# Altium integrated library XMOS xCORE General Purpose.IntLib: 46 symbols (part 1 of 4)
Pins are listed as number, name and electrical type; pins without a type are passive.

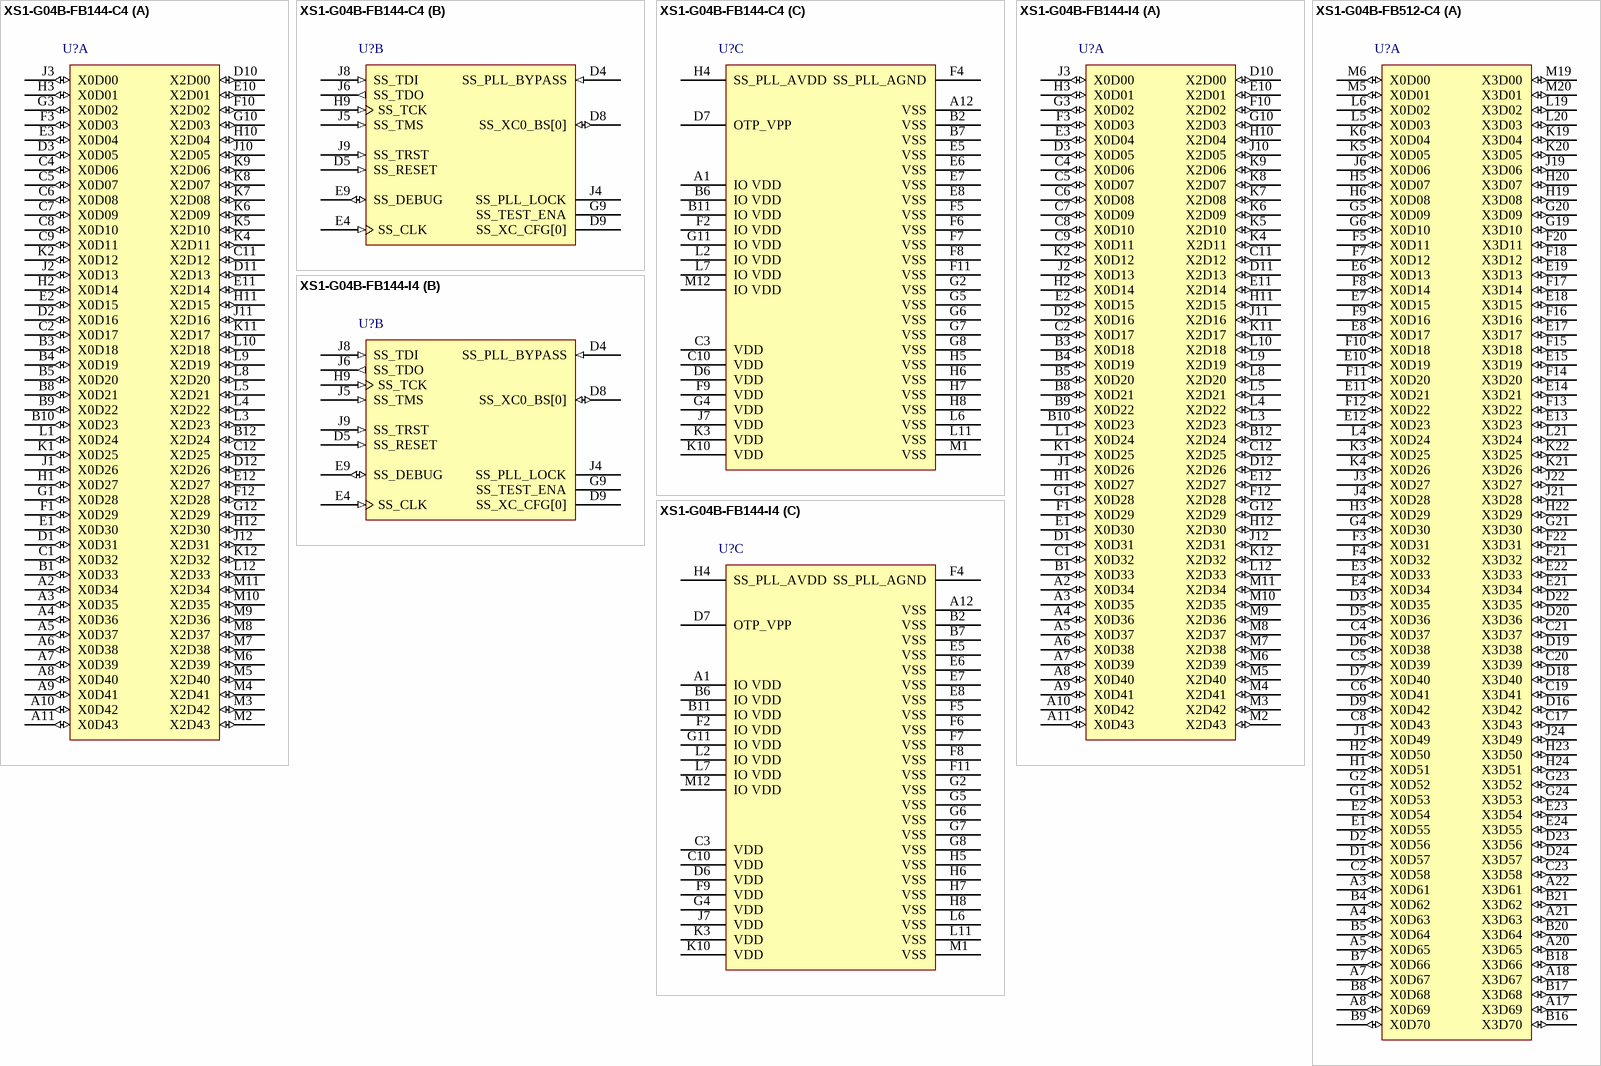
[diagram p0: symbols XS1-G04B-FB144-C4 to XS1-G04B-FB512-C4]

## XS1-G04B-FB144-C4
designator U?
32 Core XS1-G 32-bit Multicore Microcontroller, 88 I/O, 0 to 70 degC, 144-Pin FBGA, Pb-Free, Tray; PartNumber: XS1-G04B-FB144-C4; Cores/Tiles: 32/4; I/O: 88; RAM: 64 kB; Speed Grade: 400 MIPS; DatasheetVersion: Rev. X1087H; PackageReference: FBGA-144; PackageDescription: 144-Pin Fine Ball Grid Array, Body 11 x 11 mm, Pitch 0.8 mm; Supplier 1: Digi-Key; Supplier Part Number 1: 880-1008-ND; Packing: Tray; Temperature Range: 0 to 70 degC; Mounting Technology: Surface Mount; Code_JEDEC: MO-275; ComponentLink1Description: Manufacturer URL; ComponentLink1URL: http://www.xmos.com/; ComponentLink2Description: Datasheet; ComponentLink2URL: https://www.xmos.com/en/download/public/XS1-G04B-FB144-Datasheet%28X1087A%29.pdf; ComponentLink3Description: Package Specification; ComponentLink3URL: https://www.xmos.com/en/download/public/XS1-G04B-FB144-Datasheet%28X1087A%29.pdf
footprint XMOS-FBGA-144 (BGA, 144-Balls, Body 11x11mm, Pitch 0.8mm)
part A pins: A2 X0D34 (io), A3 X0D35 (io), A4 X0D36 (io), A5 X0D37 (io), A6 X0D38 (io), A7 X0D39 (io), A8 X0D40 (io), A9 X0D41 (io), A10 X0D42 (io), A11 X0D43 (io), B1 X0D33 (io), B3 X0D18 (io), B4 X0D19 (io), B5 X0D20 (io), B8 X0D21 (io), B9 X0D22 (io), B10 X0D23 (io), B12 X2D24 (io), C1 X0D32 (io), C2 X0D17 (io), C4 X0D06 (io), C5 X0D07 (io), C6 X0D08 (io), C7 X0D09 (io), C8 X0D10 (io), C9 X0D11 (io), C11 X2D12 (io), C12 X2D25 (io), D1 X0D31 (io), D2 X0D16 (io), D3 X0D05 (io), D10 X2D00 (io), D11 X2D13 (io), D12 X2D26 (io), E1 X0D30 (io), E2 X0D15 (io), E3 X0D04 (io), E10 X2D01 (io), E11 X2D14 (io), E12 X2D27 (io), F1 X0D29 (io), F3 X0D03 (io), F10 X2D02 (io), F12 X2D28 (io), G1 X0D28 (io), G3 X0D02 (io), G10 X2D03 (io), G12 X2D29 (io), H1 X0D27 (io), H2 X0D14 (io), H3 X0D01 (io), H10 X2D04 (io), H11 X2D15 (io), H12 X2D30 (io), J1 X0D26 (io), J2 X0D13 (io), J3 X0D00 (io), J10 X2D05 (io), J11 X2D16 (io), J12 X2D31 (io), K1 X0D25 (io), K2 X0D12 (io), K4 X2D11 (io), K5 X2D10 (io), K6 X2D09 (io), K7 X2D08 (io), K8 X2D07 (io), K9 X2D06 (io), K11 X2D17 (io), K12 X2D32 (io), L1 X0D24 (io), L3 X2D23 (io), L4 X2D22 (io), L5 X2D21 (io), L8 X2D20 (io), L9 X2D19 (io), L10 X2D18 (io), L12 X2D33 (io), M2 X2D43 (io), M3 X2D42 (io), M4 X2D41 (io), M5 X2D40 (io), M6 X2D39 (io), M7 X2D38 (io), M8 X2D37 (io), M9 X2D36 (io), M10 X2D35 (io), M11 X2D34 (io)
part B pins: D4 SS_PLL_BYPASS (in) "PLL bypass", D5 SS_RESET (in) "Global reset input", D8 SS_XC0_BS[0] (io) "Boot status (tile 0)", D9 SS_XC_CFG[0] "Reserved (tie to VSS)", E4 SS_CLK (in) "PLL reference clock", E9 SS_DEBUG (io) "Multi-chip debug", G9 SS_TEST_ENA "Reserved (tie to VSS)", H9 SS_TCK (in) "Test clock", J4 SS_PLL_LOCK "Reserved (do not connect)", J5 SS_TMS (in) "Test mode select", J6 SS_TDO (out) "Test data output", J8 SS_TDI (in) "Test data input", J9 SS_TRST (in) "Test reset input"
part C pins: A1 IO VDD (power) "Digital I/O power", A12 VSS (power) "Digital ground", B2 VSS (power) "Digital ground", B6 IO VDD (power) "Digital I/O power", B7 VSS (power) "Digital ground", B11 IO VDD (power) "Digital I/O power", C3 VDD (power) "Digital tile power", C10 VDD (power) "Digital tile power", D6 VDD (power) "Digital tile power", D7 OTP_VPP (power) "OTP programming voltage", E5 VSS (power) "Digital ground", E6 VSS (power) "Digital ground", E7 VSS (power) "Digital ground", E8 VSS (power) "Digital ground", F2 IO VDD (power) "Digital I/O power", F4 SS_PLL_AGND (power) "Analog ground for PLL", F5 VSS (power) "Digital ground", F6 VSS (power) "Digital ground", F7 VSS (power) "Digital ground", F8 VSS (power) "Digital ground", F9 VDD (power) "Digital tile power", F11 VSS (power) "Digital ground", G2 VSS (power) "Digital ground", G4 VDD (power) "Digital tile power", G5 VSS (power) "Digital ground", G6 VSS (power) "Digital ground", G7 VSS (power) "Digital ground", G8 VSS (power) "Digital ground", G11 IO VDD (power) "Digital I/O power", H4 SS_PLL_AVDD (power) "Analog PLL power", H5 VSS (power) "Digital ground", H6 VSS (power) "Digital ground", H7 VSS (power) "Digital ground", H8 VSS (power) "Digital ground", J7 VDD (power) "Digital tile power", K3 VDD (power) "Digital tile power", K10 VDD (power) "Digital tile power", L2 IO VDD (power) "Digital I/O power", L6 VSS (power) "Digital ground", L7 IO VDD (power) "Digital I/O power", L11 VSS (power) "Digital ground", M1 VSS (power) "Digital ground", M12 IO VDD (power) "Digital I/O power"

## XS1-G04B-FB144-I4
designator U?
32 Core XS1-G 32-bit Multicore Microcontroller, 88 I/O, -40 to 85 degC, 144-Pin FBGA, Pb-Free, Tray; PartNumber: XS1-G04B-FB144-I4; Cores/Tiles: 32/4; I/O: 88; RAM: 64 kB; Speed Grade: 400 MIPS; DatasheetVersion: Rev. X1087H; PackageReference: FBGA-144; PackageDescription: 144-Pin Fine Ball Grid Array, Body 11 x 11 mm, Pitch 0.8 mm; Supplier 1: Digi-Key; Supplier Part Number 1: 880-1009-ND; Packing: Tray; Temperature Range: -40 to 85 degC; Mounting Technology: Surface Mount; Code_JEDEC: MO-275; ComponentLink1Description: Manufacturer URL; ComponentLink1URL: http://www.xmos.com/; ComponentLink2Description: Datasheet; ComponentLink2URL: https://www.xmos.com/en/download/public/XS1-G04B-FB144-Datasheet%28X1087A%29.pdf; ComponentLink3Description: Package Specification; ComponentLink3URL: https://www.xmos.com/en/download/public/XS1-G04B-FB144-Datasheet%28X1087A%29.pdf
footprint XMOS-FBGA-144 (BGA, 144-Balls, Body 11x11mm, Pitch 0.8mm)
part A pins: A2 X0D34 (io), A3 X0D35 (io), A4 X0D36 (io), A5 X0D37 (io), A6 X0D38 (io), A7 X0D39 (io), A8 X0D40 (io), A9 X0D41 (io), A10 X0D42 (io), A11 X0D43 (io), B1 X0D33 (io), B3 X0D18 (io), B4 X0D19 (io), B5 X0D20 (io), B8 X0D21 (io), B9 X0D22 (io), B10 X0D23 (io), B12 X2D24 (io), C1 X0D32 (io), C2 X0D17 (io), C4 X0D06 (io), C5 X0D07 (io), C6 X0D08 (io), C7 X0D09 (io), C8 X0D10 (io), C9 X0D11 (io), C11 X2D12 (io), C12 X2D25 (io), D1 X0D31 (io), D2 X0D16 (io), D3 X0D05 (io), D10 X2D00 (io), D11 X2D13 (io), D12 X2D26 (io), E1 X0D30 (io), E2 X0D15 (io), E3 X0D04 (io), E10 X2D01 (io), E11 X2D14 (io), E12 X2D27 (io), F1 X0D29 (io), F3 X0D03 (io), F10 X2D02 (io), F12 X2D28 (io), G1 X0D28 (io), G3 X0D02 (io), G10 X2D03 (io), G12 X2D29 (io), H1 X0D27 (io), H2 X0D14 (io), H3 X0D01 (io), H10 X2D04 (io), H11 X2D15 (io), H12 X2D30 (io), J1 X0D26 (io), J2 X0D13 (io), J3 X0D00 (io), J10 X2D05 (io), J11 X2D16 (io), J12 X2D31 (io), K1 X0D25 (io), K2 X0D12 (io), K4 X2D11 (io), K5 X2D10 (io), K6 X2D09 (io), K7 X2D08 (io), K8 X2D07 (io), K9 X2D06 (io), K11 X2D17 (io), K12 X2D32 (io), L1 X0D24 (io), L3 X2D23 (io), L4 X2D22 (io), L5 X2D21 (io), L8 X2D20 (io), L9 X2D19 (io), L10 X2D18 (io), L12 X2D33 (io), M2 X2D43 (io), M3 X2D42 (io), M4 X2D41 (io), M5 X2D40 (io), M6 X2D39 (io), M7 X2D38 (io), M8 X2D37 (io), M9 X2D36 (io), M10 X2D35 (io), M11 X2D34 (io)
part B pins: D4 SS_PLL_BYPASS (in) "PLL bypass", D5 SS_RESET (in) "Global reset input", D8 SS_XC0_BS[0] (io) "Boot status (tile 0)", D9 SS_XC_CFG[0] "Reserved (tie to VSS)", E4 SS_CLK (in) "PLL reference clock", E9 SS_DEBUG (io) "Multi-chip debug", G9 SS_TEST_ENA "Reserved (tie to VSS)", H9 SS_TCK (in) "Test clock", J4 SS_PLL_LOCK "Reserved (do not connect)", J5 SS_TMS (in) "Test mode select", J6 SS_TDO (out) "Test data output", J8 SS_TDI (in) "Test data input", J9 SS_TRST (in) "Test reset input"
part C pins: A1 IO VDD (power) "Digital I/O power", A12 VSS (power) "Digital ground", B2 VSS (power) "Digital ground", B6 IO VDD (power) "Digital I/O power", B7 VSS (power) "Digital ground", B11 IO VDD (power) "Digital I/O power", C3 VDD (power) "Digital tile power", C10 VDD (power) "Digital tile power", D6 VDD (power) "Digital tile power", D7 OTP_VPP (power) "OTP programming voltage", E5 VSS (power) "Digital ground", E6 VSS (power) "Digital ground", E7 VSS (power) "Digital ground", E8 VSS (power) "Digital ground", F2 IO VDD (power) "Digital I/O power", F4 SS_PLL_AGND (power) "Analog ground for PLL", F5 VSS (power) "Digital ground", F6 VSS (power) "Digital ground", F7 VSS (power) "Digital ground", F8 VSS (power) "Digital ground", F9 VDD (power) "Digital tile power", F11 VSS (power) "Digital ground", G2 VSS (power) "Digital ground", G4 VDD (power) "Digital tile power", G5 VSS (power) "Digital ground", G6 VSS (power) "Digital ground", G7 VSS (power) "Digital ground", G8 VSS (power) "Digital ground", G11 IO VDD (power) "Digital I/O power", H4 SS_PLL_AVDD (power) "Analog PLL power", H5 VSS (power) "Digital ground", H6 VSS (power) "Digital ground", H7 VSS (power) "Digital ground", H8 VSS (power) "Digital ground", J7 VDD (power) "Digital tile power", K3 VDD (power) "Digital tile power", K10 VDD (power) "Digital tile power", L2 IO VDD (power) "Digital I/O power", L6 VSS (power) "Digital ground", L7 IO VDD (power) "Digital I/O power", L11 VSS (power) "Digital ground", M1 VSS (power) "Digital ground", M12 IO VDD (power) "Digital I/O power"

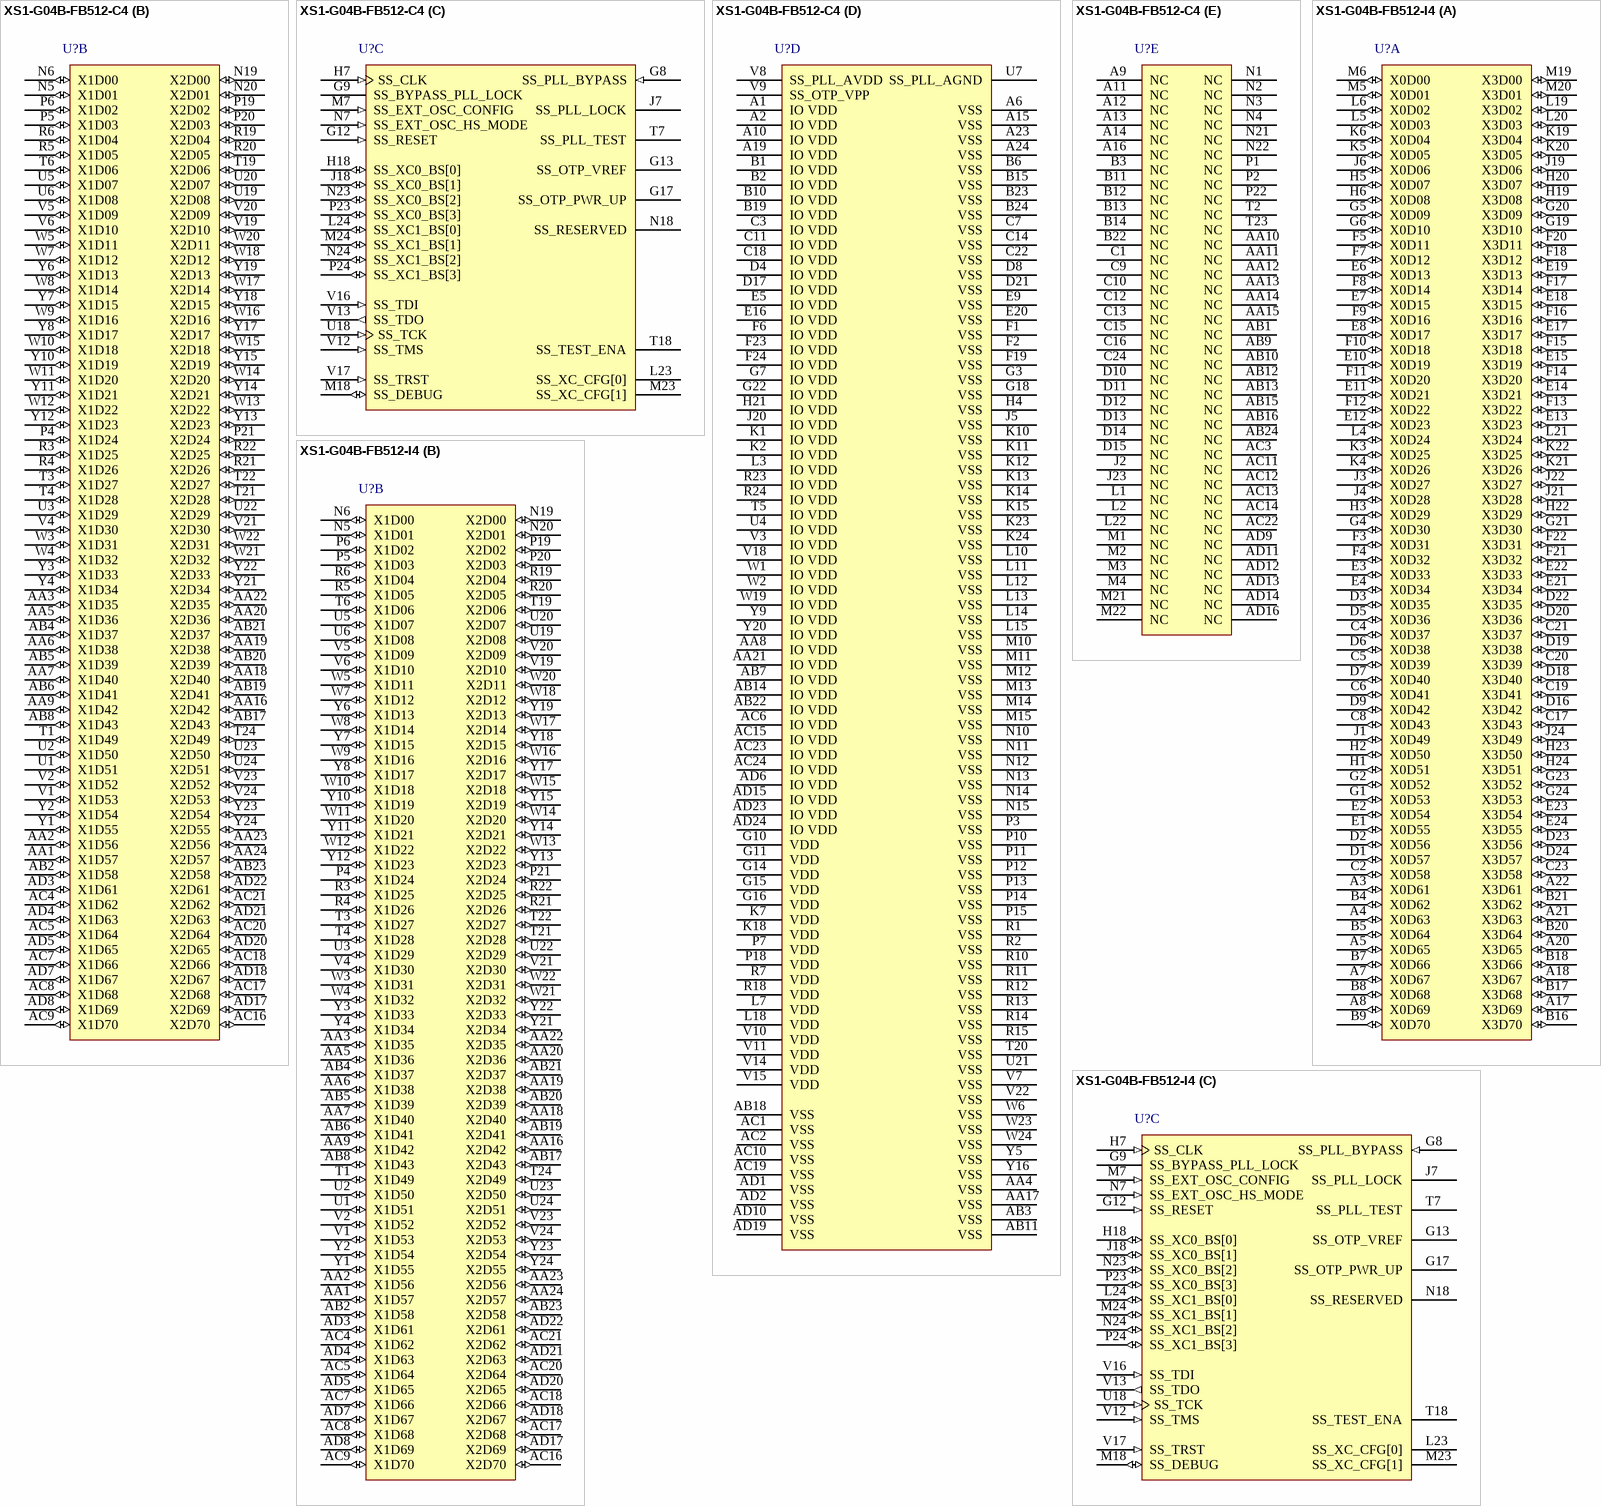
[diagram p1: symbols XS1-G04B-FB512-C4 to XS1-G04B-FB512-I4]

## XS1-G04B-FB512-C4
designator U?
32 Core XS1-G 32-bit Multicore Microcontroller, 256 I/O, 0 to 70 degC, 512-Pin PBGA, Pb-Free, Tray; PartNumber: XS1-G04B-FB512-C4; Cores/Tiles: 32/4; I/O: 256; RAM: 64 kB; Speed Grade: 400 MIPS; DatasheetVersion: Rev. X1066I; PackageReference: PBGA-512; PackageDescription: 512-Pin Plastic Ball Grid Array, Body 20 x 20 mm, Pitch 0.8 mm; Supplier 1: Digi-Key; Supplier Part Number 1: 880-1010-ND; Packing: Tray; Temperature Range: 0 to 70 degC; Mounting Technology: Surface Mount; ComponentLink1Description: Manufacturer URL; ComponentLink1URL: http://www.xmos.com/; ComponentLink2Description: Datasheet; ComponentLink2URL: https://www.xmos.com/en/download/public/XS1-G04B-FB512-Datasheet%28X1066A%29.pdf; ComponentLink3Description: Package Specification; ComponentLink3URL: https://www.xmos.com/en/download/public/XS1-G04B-FB512-Datasheet%28X1066A%29.pdf
footprint XMOS-PBGA-512 (BGA, 512-Balls, Body 20x20mm, Pitch 0.8mm)
part A pins: A3 X0D61 (io), A4 X0D63 (io), A5 X0D65 (io), A7 X0D67 (io), A8 X0D69 (io), A17 X3D69 (io), A18 X3D67 (io), A20 X3D65 (io), A21 X3D63 (io), A22 X3D61 (io), B4 X0D62 (io), B5 X0D64 (io), B7 X0D66 (io), B8 X0D68 (io), B9 X0D70 (io), B16 X3D70 (io), B17 X3D68 (io), B18 X3D66 (io), B20 X3D64 (io), B21 X3D62 (io), C2 X0D58 (io), C4 X0D37 (io), C5 X0D39 (io), C6 X0D41 (io), C8 X0D43 (io), C17 X3D43 (io), C19 X3D41 (io), C20 X3D39 (io), C21 X3D37 (io), C23 X3D58 (io), D1 X0D57 (io), D2 X0D56 (io), D3 X0D35 (io), D5 X0D36 (io), D6 X0D38 (io), D7 X0D40 (io), D9 X0D42 (io), D16 X3D42 (io), D18 X3D40 (io), D19 X3D38 (io), D20 X3D36 (io), D22 X3D35 (io), D23 X3D56 (io), D24 X3D57 (io), E1 X0D55 (io), E2 X0D54 (io), E3 X0D33 (io), E4 X0D34 (io), E6 X0D13 (io), E7 X0D15 (io), E8 X0D17 (io), E10 X0D19 (io), E11 X0D21 (io), E12 X0D23 (io), E13 X3D23 (io), E14 X3D21 (io), E15 X3D19 (io), E17 X3D17 (io), E18 X3D15 (io), E19 X3D13 (io), E21 X3D34 (io), E22 X3D33 (io), E23 X3D54 (io), E24 X3D55 (io), F3 X0D31 (io), F4 X0D32 (io), F5 X0D11 (io), F7 X0D12 (io), F8 X0D14 (io), F9 X0D16 (io), F10 X0D18 (io), F11 X0D20 (io), F12 X0D22 (io), F13 X3D22 (io), F14 X3D20 (io), F15 X3D18 (io), F16 X3D16 (io), F17 X3D14 (io), F18 X3D12 (io), F20 X3D11 (io), F21 X3D32 (io), F22 X3D31 (io), G1 X0D53 (io), G2 X0D52 (io), G4 X0D30 (io), G5 X0D09 (io), G6 X0D10 (io), G19 X3D10 (io), G20 X3D09 (io), G21 X3D30 (io), G23 X3D52 (io), G24 X3D53 (io), H1 X0D51 (io), H2 X0D50 (io), H3 X0D29 (io), H5 X0D07 (io), H6 X0D08 (io), H19 X3D08 (io), H20 X3D07 (io), H22 X3D29 (io), H23 X3D50 (io), H24 X3D51 (io), J1 X0D49 (io), J3 X0D27 (io), J4 X0D28 (io), J6 X0D06 (io), J19 X3D06 (io), J21 X3D28 (io), J22 X3D27 (io), J24 X3D49 (io), K3 X0D25 (io), K4 X0D26 (io), K5 X0D05 (io), K6 X0D04 (io), K19 X3D04 (io), K20 X3D05 (io), K21 X3D26 (io), K22 X3D25 (io), L4 X0D24 (io), L5 X0D03 (io), L6 X0D02 (io), L19 X3D02 (io), L20 X3D03 (io), L21 X3D24 (io), M5 X0D01 (io), M6 X0D00 (io), M19 X3D00 (io), M20 X3D01 (io)
part B pins: AA1 X1D57 (io), AA2 X1D56 (io), AA3 X1D35 (io), AA5 X1D36 (io), AA6 X1D38 (io), AA7 X1D40 (io), AA9 X1D42 (io), AA16 X2D42 (io), AA18 X2D40 (io), AA19 X2D38 (io), AA20 X2D36 (io), AA22 X2D35 (io), AA23 X2D56 (io), AA24 X2D57 (io), AB2 X1D58 (io), AB4 X1D37 (io), AB5 X1D39 (io), AB6 X1D41 (io), AB8 X1D43 (io), AB17 X2D43 (io), AB19 X2D41 (io), AB20 X2D39 (io), AB21 X2D37 (io), AB23 X2D58 (io), AC4 X1D62 (io), AC5 X1D64 (io), AC7 X1D66 (io), AC8 X1D68 (io), AC9 X1D70 (io), AC16 X2D70 (io), AC17 X2D68 (io), AC18 X2D66 (io), AC20 X2D64 (io), AC21 X2D62 (io), AD3 X1D61 (io), AD4 X1D63 (io), AD5 X1D65 (io), AD7 X1D67 (io), AD8 X1D69 (io), AD17 X2D69 (io), AD18 X2D67 (io), AD20 X2D65 (io), AD21 X2D63 (io), AD22 X2D61 (io), N5 X1D01 (io), N6 X1D00 (io), N19 X2D00 (io), N20 X2D01 (io), P4 X1D24 (io), P5 X1D03 (io), P6 X1D02 (io), P19 X2D02 (io), P20 X2D03 (io), P21 X2D24 (io), R3 X1D25 (io), R4 X1D26 (io), R5 X1D05 (io), R6 X1D04 (io), R19 X2D04 (io), R20 X2D05 (io), R21 X2D26 (io), R22 X2D25 (io), T1 X1D49 (io), T3 X1D27 (io), T4 X1D28 (io), T6 X1D06 (io), T19 X2D06 (io), T21 X2D28 (io), T22 X2D27 (io), T24 X2D49 (io), U1 X1D51 (io), U2 X1D50 (io), U3 X1D29 (io), U5 X1D07 (io), U6 X1D08 (io), U19 X2D08 (io), U20 X2D07 (io), U22 X2D29 (io), U23 X2D50 (io), U24 X2D51 (io), V1 X1D53 (io), V2 X1D52 (io), V4 X1D30 (io), V5 X1D09 (io), V6 X1D10 (io), V19 X2D10 (io), V20 X2D09 (io), V21 X2D30 (io), V23 X2D52 (io), V24 X2D53 (io), W3 X1D31 (io), W4 X1D32 (io), W5 X1D11 (io), W7 X1D12 (io), W8 X1D14 (io), W9 X1D16 (io), W10 X1D18 (io), W11 X1D20 (io), W12 X1D22 (io), W13 X2D22 (io), W14 X2D20 (io), W15 X2D18 (io), W16 X2D16 (io), W17 X2D14 (io), W18 X2D12 (io), W20 X2D11 (io), W21 X2D32 (io), W22 X2D31 (io), Y1 X1D55 (io), Y2 X1D54 (io), Y3 X1D33 (io), Y4 X1D34 (io), Y6 X1D13 (io), Y7 X1D15 (io), Y8 X1D17 (io), Y10 X1D19 (io), Y11 X1D21 (io), Y12 X1D23 (io), Y13 X2D23 (io), Y14 X2D21 (io), Y15 X2D19 (io), Y17 X2D17 (io), Y18 X2D15 (io), Y19 X2D13 (io), Y21 X2D34 (io), Y22 X2D33 (io), Y23 X2D54 (io), Y24 X2D55 (io)
part C pins: G8 SS_PLL_BYPASS (in) "PLL bypass", G9 SS_BYPASS_PLL_LOCK "Reserved (tie to VSS)", G12 SS_RESET (in) "Global reset input", G13 SS_OTP_VREF "Reserved (do not connect)", G17 SS_OTP_PWR_UP "Reserved (do not connect)", H7 SS_CLK (in) "PLL reference clock", H18 SS_XC0_BS[0] (io) "Boot status (tile 0)", J7 SS_PLL_LOCK "Reserved (do not connect)", J18 SS_XC0_BS[1] (io) "Boot status (tile 0)", L23 SS_XC_CFG[0] "Reserved (tie to VSS)", L24 SS_XC1_BS[0] (io) "Boot status (tile 1)", M7 SS_EXT_OSC_CONFIG (in) "Oscillator config", M18 SS_DEBUG (io) "Multi-chip debug", M23 SS_XC_CFG[1] "Reserved (tie to VSS)", M24 SS_XC1_BS[1] (io) "Boot status (tile 1)", N7 SS_EXT_OSC_HS_MODE (in) "Oscillator high-speed mode", N18 SS_RESERVED "Reserved (do not connect)", N23 SS_XC0_BS[2] (io) "Boot status (tile 0)", N24 SS_XC1_BS[2] (io) "Boot status (tile 1)", P23 SS_XC0_BS[3] (io) "Boot status (tile 0)", P24 SS_XC1_BS[3] (io) "Boot status (tile 1)", T7 SS_PLL_TEST "Reserved (do not connect)", T18 SS_TEST_ENA "Reserved (tie to VSS)", U18 SS_TCK (in) "Test clock", V12 SS_TMS (in) "Test mode select", V13 SS_TDO (out) "Test data output", V16 SS_TDI (in) "Test data input", V17 SS_TRST (in) "Test reset input"
part D pins: A1 IO VDD (power) "Digital I/O power", A2 IO VDD (power) "Digital I/O power", A6 VSS (power) "Digital ground", A10 IO VDD (power) "Digital I/O power", A15 VSS (power) "Digital ground", A19 IO VDD (power) "Digital I/O power", A23 VSS (power) "Digital ground", A24 VSS (power) "Digital ground", AA4 VSS (power) "Digital ground", AA8 IO VDD (power) "Digital I/O power", AA17 VSS (power) "Digital ground", AA21 IO VDD (power) "Digital I/O power", AB3 VSS (power) "Digital ground", AB7 IO VDD (power) "Digital I/O power", AB11 VSS (power) "Digital ground", AB14 IO VDD (power) "Digital I/O power", AB18 VSS (power) "Digital ground", AB22 IO VDD (power) "Digital I/O power", AC1 VSS (power) "Digital ground", AC2 VSS (power) "Digital ground", AC6 IO VDD (power) "Digital I/O power", AC10 VSS (power) "Digital ground", AC15 IO VDD (power) "Digital I/O power", AC19 VSS (power) "Digital ground", AC23 IO VDD (power) "Digital I/O power", AC24 IO VDD (power) "Digital I/O power", AD1 VSS (power) "Digital ground", AD2 VSS (power) "Digital ground", AD6 IO VDD (power) "Digital I/O power", AD10 VSS (power) "Digital ground", AD15 IO VDD (power) "Digital I/O power", AD19 VSS (power) "Digital ground", AD23 IO VDD (power) "Digital I/O power", AD24 IO VDD (power) "Digital I/O power", B1 IO VDD (power) "Digital I/O power", B2 IO VDD (power) "Digital I/O power", B6 VSS (power) "Digital ground", B10 IO VDD (power) "Digital I/O power", B15 VSS (power) "Digital ground", B19 IO VDD (power) "Digital I/O power", B23 VSS (power) "Digital ground", B24 VSS (power) "Digital ground", C3 IO VDD (power) "Digital I/O power", C7 VSS (power) "Digital ground", C11 IO VDD (power) "Digital I/O power", C14 VSS (power) "Digital ground", C18 IO VDD (power) "Digital I/O power", C22 VSS (power) "Digital ground", D4 IO VDD (power) "Digital I/O power", D8 VSS (power) "Digital ground", D17 IO VDD (power) "Digital I/O power", D21 VSS (power) "Digital ground", E5 IO VDD (power) "Digital I/O power", E9 VSS (power) "Digital ground", E16 IO VDD (power) "Digital I/O power", E20 VSS (power) "Digital ground", F1 VSS (power) "Digital ground", F2 VSS (power) "Digital ground", F6 IO VDD (power) "Digital I/O power", F19 VSS (power) "Digital ground", F23 IO VDD (power) "Digital I/O power", F24 IO VDD (power) "Digital I/O power", G3 VSS (power) "Digital ground", G7 IO VDD (power) "Digital I/O power", G10 VDD (power) "Digital tile power", G11 VDD (power) "Digital tile power", G14 VDD (power) "Digital tile power", G15 VDD (power) "Digital tile power", G16 VDD (power) "Digital tile power", G18 VSS (power) "Digital ground", G22 IO VDD (power) "Digital I/O power", H4 VSS (power) "Digital ground", H21 IO VDD (power) "Digital I/O power", J5 VSS (power) "Digital ground", J20 IO VDD (power) "Digital I/O power", K1 IO VDD (power) "Digital I/O power", K2 IO VDD (power) "Digital I/O power", K7 VDD (power) "Digital tile power", K10 VSS (power) "Digital ground", K11 VSS (power) "Digital ground", K12 VSS (power) "Digital ground", K13 VSS (power) "Digital ground", K14 VSS (power) "Digital ground", K15 VSS (power) "Digital ground", K18 VDD (power) "Digital tile power", K23 VSS (power) "Digital ground", K24 VSS (power) "Digital ground", L3 IO VDD (power) "Digital I/O power", L7 VDD (power) "Digital tile power", L10 VSS (power) "Digital ground", L11 VSS (power) "Digital ground", L12 VSS (power) "Digital ground", L13 VSS (power) "Digital ground", L14 VSS (power) "Digital ground", L15 VSS (power) "Digital ground", L18 VDD (power) "Digital tile power", M10 VSS (power) "Digital ground", M11 VSS (power) "Digital ground", M12 VSS (power) "Digital ground", M13 VSS (power) "Digital ground", M14 VSS (power) "Digital ground", M15 VSS (power) "Digital ground", N10 VSS (power) "Digital ground", N11 VSS (power) "Digital ground", N12 VSS (power) "Digital ground", N13 VSS (power) "Digital ground", N14 VSS (power) "Digital ground", N15 VSS (power) "Digital ground", P3 VSS (power) "Digital ground", P7 VDD (power) "Digital tile power", P10 VSS (power) "Digital ground", P11 VSS (power) "Digital ground", P12 VSS (power) "Digital ground", P13 VSS (power) "Digital ground", P14 VSS (power) "Digital ground", P15 VSS (power) "Digital ground", P18 VDD (power) "Digital tile power", R1 VSS (power) "Digital ground", R2 VSS (power) "Digital ground", R7 VDD (power) "Digital tile power", R10 VSS (power) "Digital ground", R11 VSS (power) "Digital ground", R12 VSS (power) "Digital ground", R13 VSS (power) "Digital ground", R14 VSS (power) "Digital ground", R15 VSS (power) "Digital ground", R18 VDD (power) "Digital tile power", R23 IO VDD (power) "Digital I/O power", R24 IO VDD (power) "Digital I/O power", T5 IO VDD (power) "Digital I/O power", T20 VSS (power) "Digital ground", U4 IO VDD (power) "Digital I/O power", U7 SS_PLL_AGND (power) "Analog ground for PLL", U21 VSS (power) "Digital ground", V3 IO VDD (power) "Digital I/O power", V7 VSS (power) "Digital ground", V8 SS_PLL_AVDD (power) "Analog PLL power", V9 SS_OTP_VPP (power) "OTP programming voltage", V10 VDD (power) "Digital tile power", V11 VDD (power) "Digital tile power", V14 VDD (power) "Digital tile power", V15 VDD (power) "Digital tile power", V18 IO VDD (power) "Digital I/O power", V22 VSS (power) "Digital ground", W1 IO VDD (power) "Digital I/O power", W2 IO VDD (power) "Digital I/O power", W6 VSS (power) "Digital ground", W19 IO VDD (power) "Digital I/O power", W23 VSS (power) "Digital ground", W24 VSS (power) "Digital ground", Y5 VSS (power) "Digital ground", Y9 IO VDD (power) "Digital I/O power", Y16 VSS (power) "Digital ground", Y20 IO VDD (power) "Digital I/O power"
part E pins: A9 NC "Not connected", A11 NC "Not connected", A12 NC "Not connected", A13 NC "Not connected", A14 NC "Not connected", A16 NC "Not connected", AA10 NC "Not connected", AA11 NC "Not connected", AA12 NC "Not connected", AA13 NC "Not connected", AA14 NC "Not connected", AA15 NC "Not connected", AB1 NC "Not connected", AB9 NC "Not connected", AB10 NC "Not connected", AB12 NC "Not connected", AB13 NC "Not connected", AB15 NC "Not connected", AB16 NC "Not connected", AB24 NC "Not connected", AC3 NC "Not connected", AC11 NC "Not connected", AC12 NC "Not connected", AC13 NC "Not connected", AC14 NC "Not connected", AC22 NC "Not connected", AD9 NC "Not connected", AD11 NC "Not connected", AD12 NC "Not connected", AD13 NC "Not connected", AD14 NC "Not connected", AD16 NC "Not connected", B3 NC "Not connected", B11 NC "Not connected", B12 NC "Not connected", B13 NC "Not connected", B14 NC "Not connected", B22 NC "Not connected", C1 NC "Not connected", C9 NC "Not connected", C10 NC "Not connected", C12 NC "Not connected", C13 NC "Not connected", C15 NC "Not connected", C16 NC "Not connected", C24 NC "Not connected", D10 NC "Not connected", D11 NC "Not connected", D12 NC "Not connected", D13 NC "Not connected", D14 NC "Not connected", D15 NC "Not connected", J2 NC "Not connected", J23 NC "Not connected", L1 NC "Not connected", L2 NC "Not connected", L22 NC "Not connected", M1 NC "Not connected", M2 NC "Not connected", M3 NC "Not connected", M4 NC "Not connected", M21 NC "Not connected", M22 NC "Not connected", N1 NC "Not connected", N2 NC "Not connected", N3 NC "Not connected", N4 NC "Not connected", N21 NC "Not connected", N22 NC "Not connected", P1 NC "Not connected", P2 NC "Not connected", P22 NC "Not connected", T2 NC "Not connected", T23 NC "Not connected"

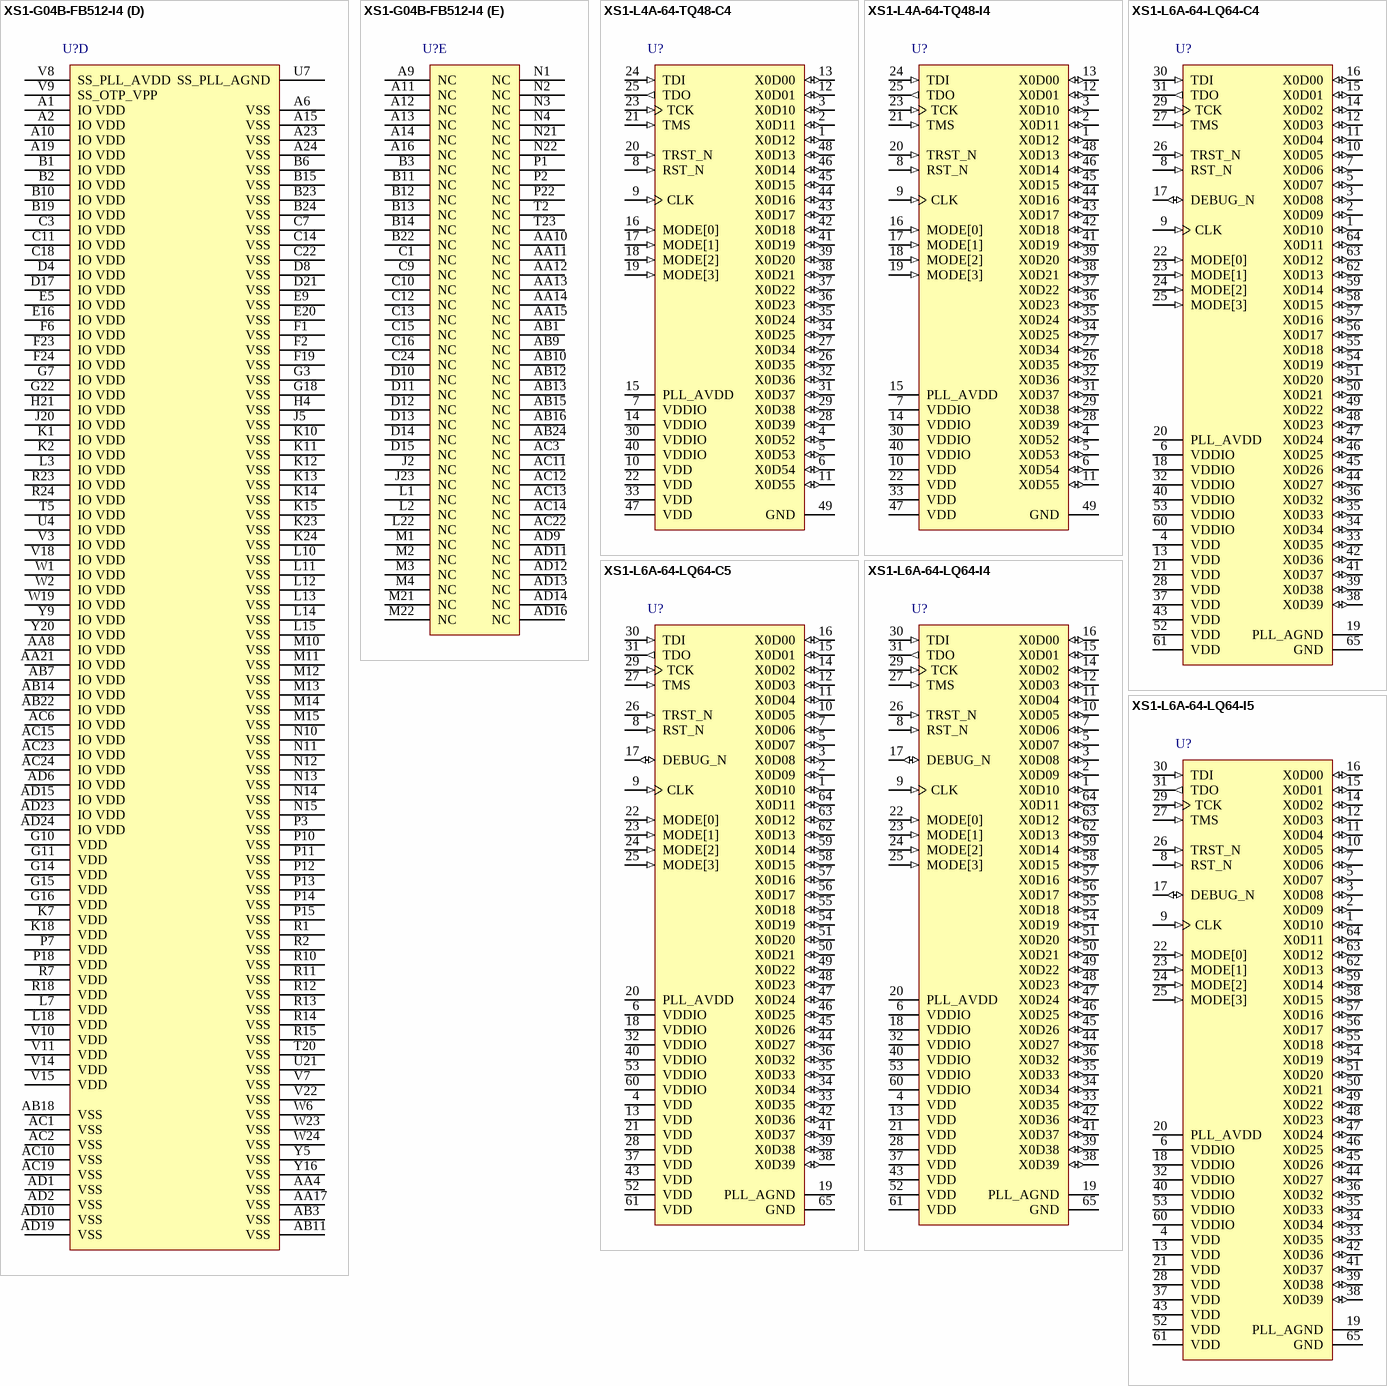
[diagram p2: symbols XS1-G04B-FB512-I4 to XS1-L6A-64-LQ64-I5]

## XS1-G04B-FB512-I4
designator U?
32 Core XS1-G 32-bit Multicore Microcontroller, 256 I/O, -40 to 85 degC, 512-Pin PBGA, Pb-Free, Tray; PartNumber: XS1-G04B-FB512-I4; Cores/Tiles: 32/4; I/O: 256; RAM: 64 kB; Speed Grade: 400 MIPS; DatasheetVersion: Rev. X1066I; PackageReference: PBGA-512; PackageDescription: 512-Pin Plastic Ball Grid Array, Body 20 x 20 mm, Pitch 0.8 mm; Supplier 1: Digi-Key; Supplier Part Number 1: 880-1011-ND; Packing: Tray; Temperature Range: -40 to 85 degC; Mounting Technology: Surface Mount; ComponentLink1Description: Manufacturer URL; ComponentLink1URL: http://www.xmos.com/; ComponentLink2Description: Datasheet; ComponentLink2URL: https://www.xmos.com/en/download/public/XS1-G04B-FB512-Datasheet%28X1066A%29.pdf; ComponentLink3Description: Package Specification; ComponentLink3URL: https://www.xmos.com/en/download/public/XS1-G04B-FB512-Datasheet%28X1066A%29.pdf
footprint XMOS-PBGA-512 (BGA, 512-Balls, Body 20x20mm, Pitch 0.8mm)
part A pins: A3 X0D61 (io), A4 X0D63 (io), A5 X0D65 (io), A7 X0D67 (io), A8 X0D69 (io), A17 X3D69 (io), A18 X3D67 (io), A20 X3D65 (io), A21 X3D63 (io), A22 X3D61 (io), B4 X0D62 (io), B5 X0D64 (io), B7 X0D66 (io), B8 X0D68 (io), B9 X0D70 (io), B16 X3D70 (io), B17 X3D68 (io), B18 X3D66 (io), B20 X3D64 (io), B21 X3D62 (io), C2 X0D58 (io), C4 X0D37 (io), C5 X0D39 (io), C6 X0D41 (io), C8 X0D43 (io), C17 X3D43 (io), C19 X3D41 (io), C20 X3D39 (io), C21 X3D37 (io), C23 X3D58 (io), D1 X0D57 (io), D2 X0D56 (io), D3 X0D35 (io), D5 X0D36 (io), D6 X0D38 (io), D7 X0D40 (io), D9 X0D42 (io), D16 X3D42 (io), D18 X3D40 (io), D19 X3D38 (io), D20 X3D36 (io), D22 X3D35 (io), D23 X3D56 (io), D24 X3D57 (io), E1 X0D55 (io), E2 X0D54 (io), E3 X0D33 (io), E4 X0D34 (io), E6 X0D13 (io), E7 X0D15 (io), E8 X0D17 (io), E10 X0D19 (io), E11 X0D21 (io), E12 X0D23 (io), E13 X3D23 (io), E14 X3D21 (io), E15 X3D19 (io), E17 X3D17 (io), E18 X3D15 (io), E19 X3D13 (io), E21 X3D34 (io), E22 X3D33 (io), E23 X3D54 (io), E24 X3D55 (io), F3 X0D31 (io), F4 X0D32 (io), F5 X0D11 (io), F7 X0D12 (io), F8 X0D14 (io), F9 X0D16 (io), F10 X0D18 (io), F11 X0D20 (io), F12 X0D22 (io), F13 X3D22 (io), F14 X3D20 (io), F15 X3D18 (io), F16 X3D16 (io), F17 X3D14 (io), F18 X3D12 (io), F20 X3D11 (io), F21 X3D32 (io), F22 X3D31 (io), G1 X0D53 (io), G2 X0D52 (io), G4 X0D30 (io), G5 X0D09 (io), G6 X0D10 (io), G19 X3D10 (io), G20 X3D09 (io), G21 X3D30 (io), G23 X3D52 (io), G24 X3D53 (io), H1 X0D51 (io), H2 X0D50 (io), H3 X0D29 (io), H5 X0D07 (io), H6 X0D08 (io), H19 X3D08 (io), H20 X3D07 (io), H22 X3D29 (io), H23 X3D50 (io), H24 X3D51 (io), J1 X0D49 (io), J3 X0D27 (io), J4 X0D28 (io), J6 X0D06 (io), J19 X3D06 (io), J21 X3D28 (io), J22 X3D27 (io), J24 X3D49 (io), K3 X0D25 (io), K4 X0D26 (io), K5 X0D05 (io), K6 X0D04 (io), K19 X3D04 (io), K20 X3D05 (io), K21 X3D26 (io), K22 X3D25 (io), L4 X0D24 (io), L5 X0D03 (io), L6 X0D02 (io), L19 X3D02 (io), L20 X3D03 (io), L21 X3D24 (io), M5 X0D01 (io), M6 X0D00 (io), M19 X3D00 (io), M20 X3D01 (io)
part B pins: AA1 X1D57 (io), AA2 X1D56 (io), AA3 X1D35 (io), AA5 X1D36 (io), AA6 X1D38 (io), AA7 X1D40 (io), AA9 X1D42 (io), AA16 X2D42 (io), AA18 X2D40 (io), AA19 X2D38 (io), AA20 X2D36 (io), AA22 X2D35 (io), AA23 X2D56 (io), AA24 X2D57 (io), AB2 X1D58 (io), AB4 X1D37 (io), AB5 X1D39 (io), AB6 X1D41 (io), AB8 X1D43 (io), AB17 X2D43 (io), AB19 X2D41 (io), AB20 X2D39 (io), AB21 X2D37 (io), AB23 X2D58 (io), AC4 X1D62 (io), AC5 X1D64 (io), AC7 X1D66 (io), AC8 X1D68 (io), AC9 X1D70 (io), AC16 X2D70 (io), AC17 X2D68 (io), AC18 X2D66 (io), AC20 X2D64 (io), AC21 X2D62 (io), AD3 X1D61 (io), AD4 X1D63 (io), AD5 X1D65 (io), AD7 X1D67 (io), AD8 X1D69 (io), AD17 X2D69 (io), AD18 X2D67 (io), AD20 X2D65 (io), AD21 X2D63 (io), AD22 X2D61 (io), N5 X1D01 (io), N6 X1D00 (io), N19 X2D00 (io), N20 X2D01 (io), P4 X1D24 (io), P5 X1D03 (io), P6 X1D02 (io), P19 X2D02 (io), P20 X2D03 (io), P21 X2D24 (io), R3 X1D25 (io), R4 X1D26 (io), R5 X1D05 (io), R6 X1D04 (io), R19 X2D04 (io), R20 X2D05 (io), R21 X2D26 (io), R22 X2D25 (io), T1 X1D49 (io), T3 X1D27 (io), T4 X1D28 (io), T6 X1D06 (io), T19 X2D06 (io), T21 X2D28 (io), T22 X2D27 (io), T24 X2D49 (io), U1 X1D51 (io), U2 X1D50 (io), U3 X1D29 (io), U5 X1D07 (io), U6 X1D08 (io), U19 X2D08 (io), U20 X2D07 (io), U22 X2D29 (io), U23 X2D50 (io), U24 X2D51 (io), V1 X1D53 (io), V2 X1D52 (io), V4 X1D30 (io), V5 X1D09 (io), V6 X1D10 (io), V19 X2D10 (io), V20 X2D09 (io), V21 X2D30 (io), V23 X2D52 (io), V24 X2D53 (io), W3 X1D31 (io), W4 X1D32 (io), W5 X1D11 (io), W7 X1D12 (io), W8 X1D14 (io), W9 X1D16 (io), W10 X1D18 (io), W11 X1D20 (io), W12 X1D22 (io), W13 X2D22 (io), W14 X2D20 (io), W15 X2D18 (io), W16 X2D16 (io), W17 X2D14 (io), W18 X2D12 (io), W20 X2D11 (io), W21 X2D32 (io), W22 X2D31 (io), Y1 X1D55 (io), Y2 X1D54 (io), Y3 X1D33 (io), Y4 X1D34 (io), Y6 X1D13 (io), Y7 X1D15 (io), Y8 X1D17 (io), Y10 X1D19 (io), Y11 X1D21 (io), Y12 X1D23 (io), Y13 X2D23 (io), Y14 X2D21 (io), Y15 X2D19 (io), Y17 X2D17 (io), Y18 X2D15 (io), Y19 X2D13 (io), Y21 X2D34 (io), Y22 X2D33 (io), Y23 X2D54 (io), Y24 X2D55 (io)
part C pins: G8 SS_PLL_BYPASS (in) "PLL bypass", G9 SS_BYPASS_PLL_LOCK "Reserved (tie to VSS)", G12 SS_RESET (in) "Global reset input", G13 SS_OTP_VREF "Reserved (do not connect)", G17 SS_OTP_PWR_UP "Reserved (do not connect)", H7 SS_CLK (in) "PLL reference clock", H18 SS_XC0_BS[0] (io) "Boot status (tile 0)", J7 SS_PLL_LOCK "Reserved (do not connect)", J18 SS_XC0_BS[1] (io) "Boot status (tile 0)", L23 SS_XC_CFG[0] "Reserved (tie to VSS)", L24 SS_XC1_BS[0] (io) "Boot status (tile 1)", M7 SS_EXT_OSC_CONFIG (in) "Oscillator config", M18 SS_DEBUG (io) "Multi-chip debug", M23 SS_XC_CFG[1] "Reserved (tie to VSS)", M24 SS_XC1_BS[1] (io) "Boot status (tile 1)", N7 SS_EXT_OSC_HS_MODE (in) "Oscillator high-speed mode", N18 SS_RESERVED "Reserved (do not connect)", N23 SS_XC0_BS[2] (io) "Boot status (tile 0)", N24 SS_XC1_BS[2] (io) "Boot status (tile 1)", P23 SS_XC0_BS[3] (io) "Boot status (tile 0)", P24 SS_XC1_BS[3] (io) "Boot status (tile 1)", T7 SS_PLL_TEST "Reserved (do not connect)", T18 SS_TEST_ENA "Reserved (tie to VSS)", U18 SS_TCK (in) "Test clock", V12 SS_TMS (in) "Test mode select", V13 SS_TDO (out) "Test data output", V16 SS_TDI (in) "Test data input", V17 SS_TRST (in) "Test reset input"
part D pins: A1 IO VDD (power) "Digital I/O power", A2 IO VDD (power) "Digital I/O power", A6 VSS (power) "Digital ground", A10 IO VDD (power) "Digital I/O power", A15 VSS (power) "Digital ground", A19 IO VDD (power) "Digital I/O power", A23 VSS (power) "Digital ground", A24 VSS (power) "Digital ground", AA4 VSS (power) "Digital ground", AA8 IO VDD (power) "Digital I/O power", AA17 VSS (power) "Digital ground", AA21 IO VDD (power) "Digital I/O power", AB3 VSS (power) "Digital ground", AB7 IO VDD (power) "Digital I/O power", AB11 VSS (power) "Digital ground", AB14 IO VDD (power) "Digital I/O power", AB18 VSS (power) "Digital ground", AB22 IO VDD (power) "Digital I/O power", AC1 VSS (power) "Digital ground", AC2 VSS (power) "Digital ground", AC6 IO VDD (power) "Digital I/O power", AC10 VSS (power) "Digital ground", AC15 IO VDD (power) "Digital I/O power", AC19 VSS (power) "Digital ground", AC23 IO VDD (power) "Digital I/O power", AC24 IO VDD (power) "Digital I/O power", AD1 VSS (power) "Digital ground", AD2 VSS (power) "Digital ground", AD6 IO VDD (power) "Digital I/O power", AD10 VSS (power) "Digital ground", AD15 IO VDD (power) "Digital I/O power", AD19 VSS (power) "Digital ground", AD23 IO VDD (power) "Digital I/O power", AD24 IO VDD (power) "Digital I/O power", B1 IO VDD (power) "Digital I/O power", B2 IO VDD (power) "Digital I/O power", B6 VSS (power) "Digital ground", B10 IO VDD (power) "Digital I/O power", B15 VSS (power) "Digital ground", B19 IO VDD (power) "Digital I/O power", B23 VSS (power) "Digital ground", B24 VSS (power) "Digital ground", C3 IO VDD (power) "Digital I/O power", C7 VSS (power) "Digital ground", C11 IO VDD (power) "Digital I/O power", C14 VSS (power) "Digital ground", C18 IO VDD (power) "Digital I/O power", C22 VSS (power) "Digital ground", D4 IO VDD (power) "Digital I/O power", D8 VSS (power) "Digital ground", D17 IO VDD (power) "Digital I/O power", D21 VSS (power) "Digital ground", E5 IO VDD (power) "Digital I/O power", E9 VSS (power) "Digital ground", E16 IO VDD (power) "Digital I/O power", E20 VSS (power) "Digital ground", F1 VSS (power) "Digital ground", F2 VSS (power) "Digital ground", F6 IO VDD (power) "Digital I/O power", F19 VSS (power) "Digital ground", F23 IO VDD (power) "Digital I/O power", F24 IO VDD (power) "Digital I/O power", G3 VSS (power) "Digital ground", G7 IO VDD (power) "Digital I/O power", G10 VDD (power) "Digital tile power", G11 VDD (power) "Digital tile power", G14 VDD (power) "Digital tile power", G15 VDD (power) "Digital tile power", G16 VDD (power) "Digital tile power", G18 VSS (power) "Digital ground", G22 IO VDD (power) "Digital I/O power", H4 VSS (power) "Digital ground", H21 IO VDD (power) "Digital I/O power", J5 VSS (power) "Digital ground", J20 IO VDD (power) "Digital I/O power", K1 IO VDD (power) "Digital I/O power", K2 IO VDD (power) "Digital I/O power", K7 VDD (power) "Digital tile power", K10 VSS (power) "Digital ground", K11 VSS (power) "Digital ground", K12 VSS (power) "Digital ground", K13 VSS (power) "Digital ground", K14 VSS (power) "Digital ground", K15 VSS (power) "Digital ground", K18 VDD (power) "Digital tile power", K23 VSS (power) "Digital ground", K24 VSS (power) "Digital ground", L3 IO VDD (power) "Digital I/O power", L7 VDD (power) "Digital tile power", L10 VSS (power) "Digital ground", L11 VSS (power) "Digital ground", L12 VSS (power) "Digital ground", L13 VSS (power) "Digital ground", L14 VSS (power) "Digital ground", L15 VSS (power) "Digital ground", L18 VDD (power) "Digital tile power", M10 VSS (power) "Digital ground", M11 VSS (power) "Digital ground", M12 VSS (power) "Digital ground", M13 VSS (power) "Digital ground", M14 VSS (power) "Digital ground", M15 VSS (power) "Digital ground", N10 VSS (power) "Digital ground", N11 VSS (power) "Digital ground", N12 VSS (power) "Digital ground", N13 VSS (power) "Digital ground", N14 VSS (power) "Digital ground", N15 VSS (power) "Digital ground", P3 VSS (power) "Digital ground", P7 VDD (power) "Digital tile power", P10 VSS (power) "Digital ground", P11 VSS (power) "Digital ground", P12 VSS (power) "Digital ground", P13 VSS (power) "Digital ground", P14 VSS (power) "Digital ground", P15 VSS (power) "Digital ground", P18 VDD (power) "Digital tile power", R1 VSS (power) "Digital ground", R2 VSS (power) "Digital ground", R7 VDD (power) "Digital tile power", R10 VSS (power) "Digital ground", R11 VSS (power) "Digital ground", R12 VSS (power) "Digital ground", R13 VSS (power) "Digital ground", R14 VSS (power) "Digital ground", R15 VSS (power) "Digital ground", R18 VDD (power) "Digital tile power", R23 IO VDD (power) "Digital I/O power", R24 IO VDD (power) "Digital I/O power", T5 IO VDD (power) "Digital I/O power", T20 VSS (power) "Digital ground", U4 IO VDD (power) "Digital I/O power", U7 SS_PLL_AGND (power) "Analog ground for PLL", U21 VSS (power) "Digital ground", V3 IO VDD (power) "Digital I/O power", V7 VSS (power) "Digital ground", V8 SS_PLL_AVDD (power) "Analog PLL power", V9 SS_OTP_VPP (power) "OTP programming voltage", V10 VDD (power) "Digital tile power", V11 VDD (power) "Digital tile power", V14 VDD (power) "Digital tile power", V15 VDD (power) "Digital tile power", V18 IO VDD (power) "Digital I/O power", V22 VSS (power) "Digital ground", W1 IO VDD (power) "Digital I/O power", W2 IO VDD (power) "Digital I/O power", W6 VSS (power) "Digital ground", W19 IO VDD (power) "Digital I/O power", W23 VSS (power) "Digital ground", W24 VSS (power) "Digital ground", Y5 VSS (power) "Digital ground", Y9 IO VDD (power) "Digital I/O power", Y16 VSS (power) "Digital ground", Y20 IO VDD (power) "Digital I/O power"
part E pins: A9 NC "Not connected", A11 NC "Not connected", A12 NC "Not connected", A13 NC "Not connected", A14 NC "Not connected", A16 NC "Not connected", AA10 NC "Not connected", AA11 NC "Not connected", AA12 NC "Not connected", AA13 NC "Not connected", AA14 NC "Not connected", AA15 NC "Not connected", AB1 NC "Not connected", AB9 NC "Not connected", AB10 NC "Not connected", AB12 NC "Not connected", AB13 NC "Not connected", AB15 NC "Not connected", AB16 NC "Not connected", AB24 NC "Not connected", AC3 NC "Not connected", AC11 NC "Not connected", AC12 NC "Not connected", AC13 NC "Not connected", AC14 NC "Not connected", AC22 NC "Not connected", AD9 NC "Not connected", AD11 NC "Not connected", AD12 NC "Not connected", AD13 NC "Not connected", AD14 NC "Not connected", AD16 NC "Not connected", B3 NC "Not connected", B11 NC "Not connected", B12 NC "Not connected", B13 NC "Not connected", B14 NC "Not connected", B22 NC "Not connected", C1 NC "Not connected", C9 NC "Not connected", C10 NC "Not connected", C12 NC "Not connected", C13 NC "Not connected", C15 NC "Not connected", C16 NC "Not connected", C24 NC "Not connected", D10 NC "Not connected", D11 NC "Not connected", D12 NC "Not connected", D13 NC "Not connected", D14 NC "Not connected", D15 NC "Not connected", J2 NC "Not connected", J23 NC "Not connected", L1 NC "Not connected", L2 NC "Not connected", L22 NC "Not connected", M1 NC "Not connected", M2 NC "Not connected", M3 NC "Not connected", M4 NC "Not connected", M21 NC "Not connected", M22 NC "Not connected", N1 NC "Not connected", N2 NC "Not connected", N3 NC "Not connected", N4 NC "Not connected", N21 NC "Not connected", N22 NC "Not connected", P1 NC "Not connected", P2 NC "Not connected", P22 NC "Not connected", T2 NC "Not connected", T23 NC "Not connected"

## XS1-L4A-64-TQ48-C4
designator U?
4 Core XS1-L 32-bit Multicore Microcontroller, 28 I/O, 0 to 70 degC, 48-Pin TQFP, Pb-Free, Tray; PartNumber: XS1-L4A-64-TQ48-C4; Cores/Tiles: 4/1; I/O: 28; RAM: 64 kB; Speed Grade: 400 MIPS; DatasheetVersion: Rev. X2612; PackageReference: TQFP-48; PackageDescription: 48-Pin Thin Quad Flat Pack, Body 7 x 7 mm, Pitch 0.5 mm; Supplier 1: Digi-Key; Supplier Part Number 1: 880-1065-ND; Supplier 2: Farnell; Supplier Part Number 2: 2356335; Supplier 3: Newark; Supplier Part Number 3: 07X2007; Packing: Tray; Temperature Range: 0 to 70 degC; Mounting Technology: Surface Mount; Code_JEDEC: MS-026; ComponentLink1Description: Manufacturer URL; ComponentLink1URL: http://www.xmos.com/; ComponentLink2Description: Datasheet; ComponentLink2URL: https://www.xmos.com/zh/download/public/XS1-L4A-64-TQ48-Datasheet%28X2612E%29.pdf; ComponentLink3Description: Package Specification; ComponentLink3URL: https://www.xmos.com/en/download/public/XS1-L8A-64-TQ48-Datasheet%28X9681G%29.pdf
footprint XMOS-TQFP-48_V (TQFP, 48-Leads, Body 7x7mm, Pitch 0.5mm, Thermal Pad 3.75x3.75mm)
pins: 1 X0D12 (io), 2 X0D11 (io), 3 X0D10 (io), 4 X0D52 (io), 5 X0D53 (io), 6 X0D54 (io), 7 VDDIO (power) "Digital I/O power", 8 RST_N (in) "Global reset input", 9 CLK (in) "PLL reference clock", 10 VDD (power) "Digital tile power", 11 X0D55 (io), 12 X0D01 (io), 13 X0D00 (io), 14 VDDIO (power) "Digital I/O power", 15 PLL_AVDD (power) "Analog PLL power", 16 MODE[0] (in) "Boot mode select", 17 MODE[1] (in) "Boot mode select", 18 MODE[2] (in) "Boot mode select", 19 MODE[3] (in) "Boot mode select", 20 TRST_N (in) "Test reset input", 21 TMS (in) "Test mode select", 22 VDD (power) "Digital tile power", 23 TCK (in) "Test clock", 24 TDI (in) "Test data input", 25 TDO (out) "Test data output", 26 X0D35 (io), 27 X0D34 (io), 28 X0D39 (io), 29 X0D38 (io), 30 VDDIO (power) "Digital I/O power", 31 X0D37 (io), 32 X0D36 (io), 33 VDD (power) "Digital tile power", 34 X0D25 (io), 35 X0D24 (io), 36 X0D23 (io), 37 X0D22 (io), 38 X0D21 (io), 39 X0D20 (io), 40 VDDIO (power) "Digital I/O power", 41 X0D19 (io), 42 X0D18 (io), 43 X0D17 (io), 44 X0D16 (io), 45 X0D15 (io), 46 X0D14 (io), 47 VDD (power) "Digital tile power", 48 X0D13 (io), 49 GND (power) "Digital ground"

## XS1-L4A-64-TQ48-I4
designator U?
4 Core XS1-L 32-bit Multicore Microcontroller, 28 I/O, -40 to 85 degC, 48-Pin TQFP, Pb-Free, Tray; PartNumber: XS1-L4A-64-TQ48-I4; Cores/Tiles: 4/1; I/O: 28; RAM: 64 kB; Speed Grade: 400 MIPS; DatasheetVersion: Rev. X2612; PackageReference: TQFP-48; PackageDescription: 48-Pin Thin Quad Flat Pack, Body 7 x 7 mm, Pitch 0.5 mm; Supplier 1: Digi-Key; Supplier Part Number 1: XS1-L4A-64-TQ48-I4-ND; Packing: Tray; Temperature Range: -40 to 85 degC; Mounting Technology: Surface Mount; Code_JEDEC: MS-026; ComponentLink1Description: Manufacturer URL; ComponentLink1URL: http://www.xmos.com/; ComponentLink2Description: Datasheet; ComponentLink2URL: https://www.xmos.com/zh/download/public/XS1-L4A-64-TQ48-Datasheet%28X2612E%29.pdf; ComponentLink3Description: Package Specification; ComponentLink3URL: https://www.xmos.com/en/download/public/XS1-L8A-64-TQ48-Datasheet%28X9681G%29.pdf
footprint XMOS-TQFP-48_V (TQFP, 48-Leads, Body 7x7mm, Pitch 0.5mm, Thermal Pad 3.75x3.75mm)
pins: 1 X0D12 (io), 2 X0D11 (io), 3 X0D10 (io), 4 X0D52 (io), 5 X0D53 (io), 6 X0D54 (io), 7 VDDIO (power) "Digital I/O power", 8 RST_N (in) "Global reset input", 9 CLK (in) "PLL reference clock", 10 VDD (power) "Digital tile power", 11 X0D55 (io), 12 X0D01 (io), 13 X0D00 (io), 14 VDDIO (power) "Digital I/O power", 15 PLL_AVDD (power) "Analog PLL power", 16 MODE[0] (in) "Boot mode select", 17 MODE[1] (in) "Boot mode select", 18 MODE[2] (in) "Boot mode select", 19 MODE[3] (in) "Boot mode select", 20 TRST_N (in) "Test reset input", 21 TMS (in) "Test mode select", 22 VDD (power) "Digital tile power", 23 TCK (in) "Test clock", 24 TDI (in) "Test data input", 25 TDO (out) "Test data output", 26 X0D35 (io), 27 X0D34 (io), 28 X0D39 (io), 29 X0D38 (io), 30 VDDIO (power) "Digital I/O power", 31 X0D37 (io), 32 X0D36 (io), 33 VDD (power) "Digital tile power", 34 X0D25 (io), 35 X0D24 (io), 36 X0D23 (io), 37 X0D22 (io), 38 X0D21 (io), 39 X0D20 (io), 40 VDDIO (power) "Digital I/O power", 41 X0D19 (io), 42 X0D18 (io), 43 X0D17 (io), 44 X0D16 (io), 45 X0D15 (io), 46 X0D14 (io), 47 VDD (power) "Digital tile power", 48 X0D13 (io), 49 GND (power) "Digital ground"

## XS1-L6A-64-LQ64-C4
designator U?
6 Core XS1-L 32-bit Multicore Microcontroller, 36 I/O, 0 to 70 degC, 64-Pin LQFP, Pb-Free, Tray; PartNumber: XS1-L6A-64-LQ64-C4; Cores/Tiles: 6/1; I/O: 36; RAM: 64 kB; Speed Grade: 400 MIPS; DatasheetVersion: Rev. X9194; PackageReference: LQFP-64; PackageDescription: 64-Pin Low Profile Quad Flat Pack, Body 10 x 10 mm, Pitch 0.5 mm; Supplier 1: Digi-Key; Supplier Part Number 1: 880-1061-ND; Packing: Tray; Temperature Range: 0 to 70 degC; Mounting Technology: Surface Mount; Code_JEDEC: MS-026; ComponentLink1Description: Manufacturer URL; ComponentLink1URL: http://www.xmos.com/; ComponentLink2Description: Datasheet; ComponentLink2URL: https://www.xmos.com/zh/download/public/XS1-L6A-64-LQ64-Datasheet%28X9194F%29.pdf; ComponentLink3Description: Package Specification; ComponentLink3URL: https://www.xmos.com/zh/download/public/XS1-L6A-64-LQ64-Datasheet%28X9194F%29.pdf
footprint XMOS-LQFP-64_V (LQFP, 64-Leads, Body 10x10mm, Pitch 0.5mm, Thermal Pad 5.2x5.2mm)
pins: 1 X0D10 (io), 2 X0D09 (io), 3 X0D08 (io), 4 VDD (power) "Digital tile power", 5 X0D07 (io), 6 VDDIO (power) "Digital I/O power", 7 X0D06 (io), 8 RST_N (in) "Global reset input", 9 CLK (in) "PLL reference clock", 10 X0D05 (io), 11 X0D04 (io), 12 X0D03 (io), 13 VDD (power) "Digital tile power", 14 X0D02 (io), 15 X0D01 (io), 16 X0D00 (io), 17 DEBUG_N (io) "Multi-chip debug", 18 VDDIO (power) "Digital I/O power", 19 PLL_AGND (power) "Analog ground for PLL", 20 PLL_AVDD (power) "Analog PLL power", 21 VDD (power) "Digital tile power", 22 MODE[0] (in) "Boot mode select", 23 MODE[1] (in) "Boot mode select", 24 MODE[2] (in) "Boot mode select", 25 MODE[3] (in) "Boot mode select", 26 TRST_N (in) "Test reset input", 27 TMS (in) "Test mode select", 28 VDD (power) "Digital tile power", 29 TCK (in) "Test clock", 30 TDI (in) "Test data input", 31 TDO (out) "Test data output", 32 VDDIO (power) "Digital I/O power", 33 X0D35 (io), 34 X0D34 (io), 35 X0D33 (io), 36 X0D32 (io), 37 VDD (power) "Digital tile power", 38 X0D39 (io), 39 X0D38 (io), 40 VDDIO (power) "Digital I/O power", 41 X0D37 (io), 42 X0D36 (io), 43 VDD (power) "Digital tile power", 44 X0D27 (io), 45 X0D26 (io), 46 X0D25 (io), 47 X0D24 (io), 48 X0D23 (io), 49 X0D22 (io), 50 X0D21 (io), 51 X0D20 (io), 52 VDD (power) "Digital tile power", 53 VDDIO (power) "Digital I/O power", 54 X0D19 (io), 55 X0D18 (io), 56 X0D17 (io), 57 X0D16 (io), 58 X0D15 (io), 59 X0D14 (io), 60 VDDIO (power) "Digital I/O power", 61 VDD (power) "Digital tile power", 62 X0D13 (io), 63 X0D12 (io), 64 X0D11 (io), 65 GND (power) "Digital ground"

## XS1-L6A-64-LQ64-C5
designator U?
6 Core XS1-L 32-bit Multicore Microcontroller, 36 I/O, 0 to 70 degC, 64-Pin LQFP, Pb-Free, Tray; PartNumber: XS1-L6A-64-LQ64-C5; Cores/Tiles: 6/1; I/O: 36; RAM: 64 kB; Speed Grade: 500 MIPS; DatasheetVersion: Rev. X9194; PackageReference: LQFP-64; PackageDescription: 64-Pin Low Profile Quad Flat Pack, Body 10 x 10 mm, Pitch 0.5 mm; Supplier 1: Digi-Key; Supplier Part Number 1: 880-1060-ND; Packing: Tray; Temperature Range: 0 to 70 degC; Mounting Technology: Surface Mount; Code_JEDEC: MS-026; ComponentLink1Description: Manufacturer URL; ComponentLink1URL: http://www.xmos.com/; ComponentLink2Description: Datasheet; ComponentLink2URL: https://www.xmos.com/zh/download/public/XS1-L6A-64-LQ64-Datasheet%28X9194F%29.pdf; ComponentLink3Description: Package Specification; ComponentLink3URL: https://www.xmos.com/zh/download/public/XS1-L6A-64-LQ64-Datasheet%28X9194F%29.pdf
footprint XMOS-LQFP-64_V (LQFP, 64-Leads, Body 10x10mm, Pitch 0.5mm, Thermal Pad 5.2x5.2mm)
pins: 1 X0D10 (io), 2 X0D09 (io), 3 X0D08 (io), 4 VDD (power) "Digital tile power", 5 X0D07 (io), 6 VDDIO (power) "Digital I/O power", 7 X0D06 (io), 8 RST_N (in) "Global reset input", 9 CLK (in) "PLL reference clock", 10 X0D05 (io), 11 X0D04 (io), 12 X0D03 (io), 13 VDD (power) "Digital tile power", 14 X0D02 (io), 15 X0D01 (io), 16 X0D00 (io), 17 DEBUG_N (io) "Multi-chip debug", 18 VDDIO (power) "Digital I/O power", 19 PLL_AGND (power) "Analog ground for PLL", 20 PLL_AVDD (power) "Analog PLL power", 21 VDD (power) "Digital tile power", 22 MODE[0] (in) "Boot mode select", 23 MODE[1] (in) "Boot mode select", 24 MODE[2] (in) "Boot mode select", 25 MODE[3] (in) "Boot mode select", 26 TRST_N (in) "Test reset input", 27 TMS (in) "Test mode select", 28 VDD (power) "Digital tile power", 29 TCK (in) "Test clock", 30 TDI (in) "Test data input", 31 TDO (out) "Test data output", 32 VDDIO (power) "Digital I/O power", 33 X0D35 (io), 34 X0D34 (io), 35 X0D33 (io), 36 X0D32 (io), 37 VDD (power) "Digital tile power", 38 X0D39 (io), 39 X0D38 (io), 40 VDDIO (power) "Digital I/O power", 41 X0D37 (io), 42 X0D36 (io), 43 VDD (power) "Digital tile power", 44 X0D27 (io), 45 X0D26 (io), 46 X0D25 (io), 47 X0D24 (io), 48 X0D23 (io), 49 X0D22 (io), 50 X0D21 (io), 51 X0D20 (io), 52 VDD (power) "Digital tile power", 53 VDDIO (power) "Digital I/O power", 54 X0D19 (io), 55 X0D18 (io), 56 X0D17 (io), 57 X0D16 (io), 58 X0D15 (io), 59 X0D14 (io), 60 VDDIO (power) "Digital I/O power", 61 VDD (power) "Digital tile power", 62 X0D13 (io), 63 X0D12 (io), 64 X0D11 (io), 65 GND (power) "Digital ground"

## XS1-L6A-64-LQ64-I4
designator U?
6 Core XS1-L 32-bit Multicore Microcontroller, 36 I/O, -40 to 85 degC, 64-Pin LQFP, Pb-Free, Tray; PartNumber: XS1-L6A-64-LQ64-I4; Cores/Tiles: 6/1; I/O: 36; RAM: 64 kB; Speed Grade: 400 MIPS; DatasheetVersion: Rev. X9194; PackageReference: LQFP-64; PackageDescription: 64-Pin Low Profile Quad Flat Pack, Body 10 x 10 mm, Pitch 0.5 mm; Supplier 1: Digi-Key; Supplier Part Number 1: XS1-L6A-64-LQ64-I4-ND; Packing: Tray; Temperature Range: -40 to 85 degC; Mounting Technology: Surface Mount; Code_JEDEC: MS-026; ComponentLink1Description: Manufacturer URL; ComponentLink1URL: http://www.xmos.com/; ComponentLink2Description: Datasheet; ComponentLink2URL: https://www.xmos.com/zh/download/public/XS1-L6A-64-LQ64-Datasheet%28X9194F%29.pdf; ComponentLink3Description: Package Specification; ComponentLink3URL: https://www.xmos.com/zh/download/public/XS1-L6A-64-LQ64-Datasheet%28X9194F%29.pdf
footprint XMOS-LQFP-64_V (LQFP, 64-Leads, Body 10x10mm, Pitch 0.5mm, Thermal Pad 5.2x5.2mm)
pins: 1 X0D10 (io), 2 X0D09 (io), 3 X0D08 (io), 4 VDD (power) "Digital tile power", 5 X0D07 (io), 6 VDDIO (power) "Digital I/O power", 7 X0D06 (io), 8 RST_N (in) "Global reset input", 9 CLK (in) "PLL reference clock", 10 X0D05 (io), 11 X0D04 (io), 12 X0D03 (io), 13 VDD (power) "Digital tile power", 14 X0D02 (io), 15 X0D01 (io), 16 X0D00 (io), 17 DEBUG_N (io) "Multi-chip debug", 18 VDDIO (power) "Digital I/O power", 19 PLL_AGND (power) "Analog ground for PLL", 20 PLL_AVDD (power) "Analog PLL power", 21 VDD (power) "Digital tile power", 22 MODE[0] (in) "Boot mode select", 23 MODE[1] (in) "Boot mode select", 24 MODE[2] (in) "Boot mode select", 25 MODE[3] (in) "Boot mode select", 26 TRST_N (in) "Test reset input", 27 TMS (in) "Test mode select", 28 VDD (power) "Digital tile power", 29 TCK (in) "Test clock", 30 TDI (in) "Test data input", 31 TDO (out) "Test data output", 32 VDDIO (power) "Digital I/O power", 33 X0D35 (io), 34 X0D34 (io), 35 X0D33 (io), 36 X0D32 (io), 37 VDD (power) "Digital tile power", 38 X0D39 (io), 39 X0D38 (io), 40 VDDIO (power) "Digital I/O power", 41 X0D37 (io), 42 X0D36 (io), 43 VDD (power) "Digital tile power", 44 X0D27 (io), 45 X0D26 (io), 46 X0D25 (io), 47 X0D24 (io), 48 X0D23 (io), 49 X0D22 (io), 50 X0D21 (io), 51 X0D20 (io), 52 VDD (power) "Digital tile power", 53 VDDIO (power) "Digital I/O power", 54 X0D19 (io), 55 X0D18 (io), 56 X0D17 (io), 57 X0D16 (io), 58 X0D15 (io), 59 X0D14 (io), 60 VDDIO (power) "Digital I/O power", 61 VDD (power) "Digital tile power", 62 X0D13 (io), 63 X0D12 (io), 64 X0D11 (io), 65 GND (power) "Digital ground"